# EAGLE library part AK4114 (library akm)
Digital Audio Transmitter (DIT) 8:1 Selector, 24-Bit, 192 kHz
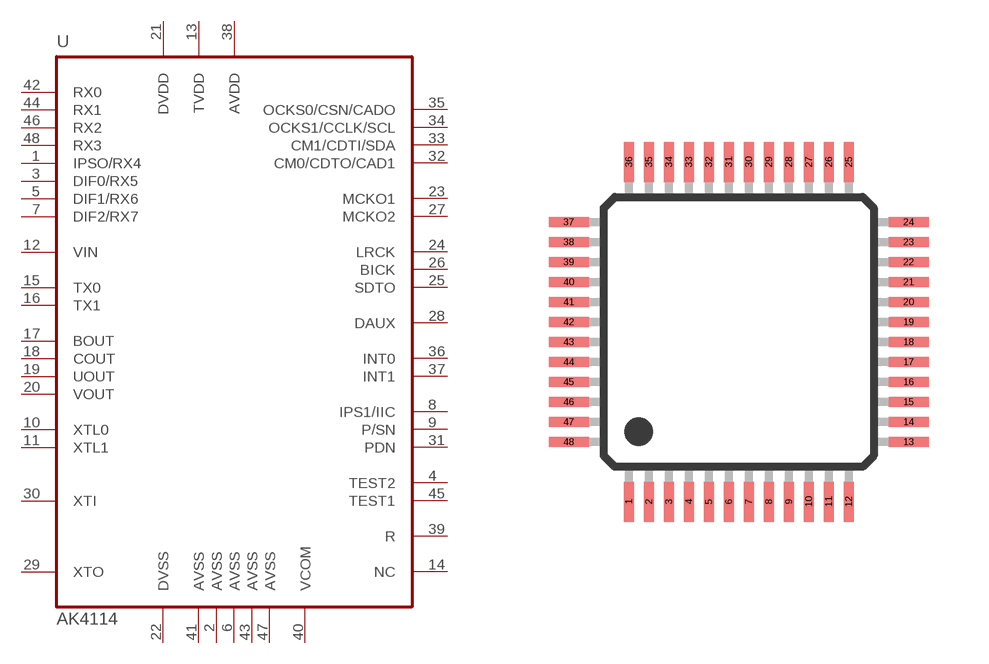
[diagram p5: symbol with the pads of LQFP48; footprint LQFP48]

Designator prefix U

## AK4114  [LQFP48]
1  IPSO/RX4  in
2  AVSS1  pwr
3  DIF0/RX5  in
4  TEST2  in
5  DIF1/RX6  in
6  AVSS2  pwr
7  DIF2/RX7  in
8  IPS1/IIC  in
9  P/SN  in
10  XTL0  in
11  XTL1  in
12  VIN  in
13  TVDD  pwr
14  NC  in
15  TX0  out
16  TX1  out
17  BOUT  out
18  COUT  out
19  UOUT  out
20  VOUT  out
21  DVDD  pwr
22  DVSS  pwr
23  MCKO1  out
24  LRCK
25  SDTO  out
26  BICK
27  MCKO2  out
28  DAUX  in
29  XTO  out
30  XTI  in
31  PDN  in
32  CM0/CDTO/CAD1
33  CM1/CDTI/SDA
34  OCKS1/CCLK/SCL  in
35  OCKS0/CSN/CADO  in
36  INT0  out
37  INT1  out
38  AVDD  pwr
39  R  pas
40  VCOM  pas
41  AVSS  pwr
42  RX0  in
43  AVSS3  pwr
44  RX1  in
45  TEST1  in
46  RX2  in
47  AVSS4  pwr
48  RX3  in

## Footprint LQFP48 (pad centres in mm)
LQFP48
smd 0.25 x 1: 1 -2.75,-4.25; 2 -2.25,-4.25; 3 -1.75,-4.25; 4 -1.25,-4.25; 5 -0.75,-4.25; 6 -0.25,-4.25; 7 0.25,-4.25; 8 0.75,-4.25; 9 1.25,-4.25; 10 1.75,-4.25; 11 2.25,-4.25; 12 2.75,-4.25; 25 2.75,4.25; 26 2.25,4.25; 27 1.75,4.25; 28 1.25,4.25; 29 0.75,4.25; 30 0.25,4.25; 31 -0.25,4.25; 32 -0.75,4.25; 33 -1.25,4.25; 34 -1.75,4.25; 35 -2.25,4.25; 36 -2.75,4.25
smd 1 x 0.25: 13 4.25,-2.75; 14 4.25,-2.25; 15 4.25,-1.75; 16 4.25,-1.25; 17 4.25,-0.75; 18 4.25,-0.25; 19 4.25,0.25; 20 4.25,0.75; 21 4.25,1.25; 22 4.25,1.75; 23 4.25,2.25; 24 4.25,2.75; 37 -4.25,2.75; 38 -4.25,2.25; 39 -4.25,1.75; 40 -4.25,1.25; 41 -4.25,0.75; 42 -4.25,0.25; 43 -4.25,-0.25; 44 -4.25,-0.75; 45 -4.25,-1.25; 46 -4.25,-1.75; 47 -4.25,-2.25; 48 -4.25,-2.75